# Altium footprint library USB-A-PCB.PcbLib: 1 footprints
Each footprint in its own frame and in the unit in brackets; x right, y up, seen from the top. Pads: shape width x height; smd on the part's side, far side on the other; paste and mask are expansions set on the pad; w line width, h text height; cw(c..) or ccw(c..) is an arc to the next point about the centre after c.
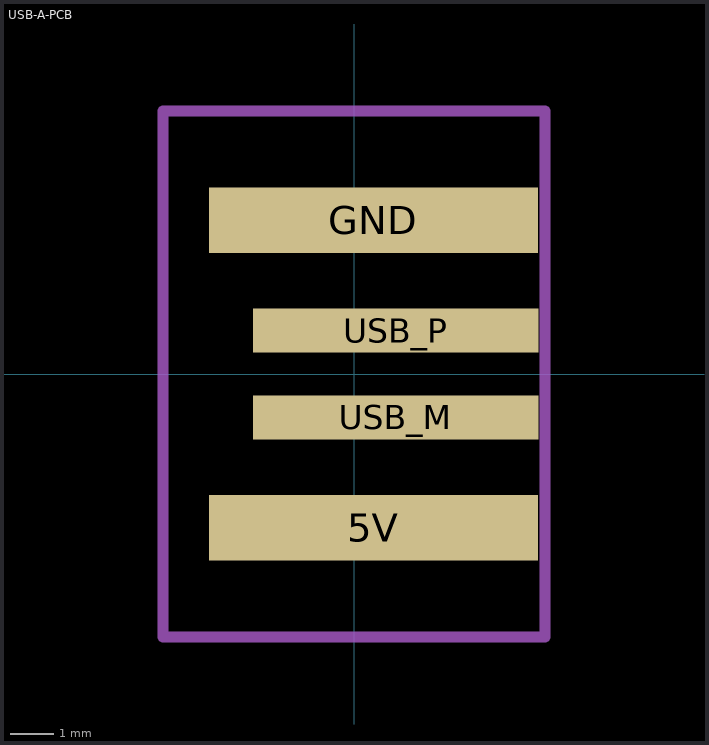
[diagram p0: the footprint, top view; thin cyan lines are the x and y axes]

## USB-A-PCB [mil]
pads (4):
  rect 295.3x59.1 smd: 5V(17.5,-138) GND(17.5,138)
  rect 255.9x39.4 smd: USB_M(37.5,-39) USB_P(37.5,39)
Mechanical 15:
  lines w10: -171.5,-236 171.5,-236 171.5,236 -171.5,236 -171.5,-236